# Altium footprint library PHD2.0.PcbLib: 19 footprints (part 1 of 2)
Each footprint in its own frame and in the unit in brackets; x right, y up, seen from the top. Pads: shape width x height; smd on the part's side, far side on the other; paste and mask are expansions set on the pad; w line width, h text height; cw(c..) or ccw(c..) is an arc to the next point about the centre after c.
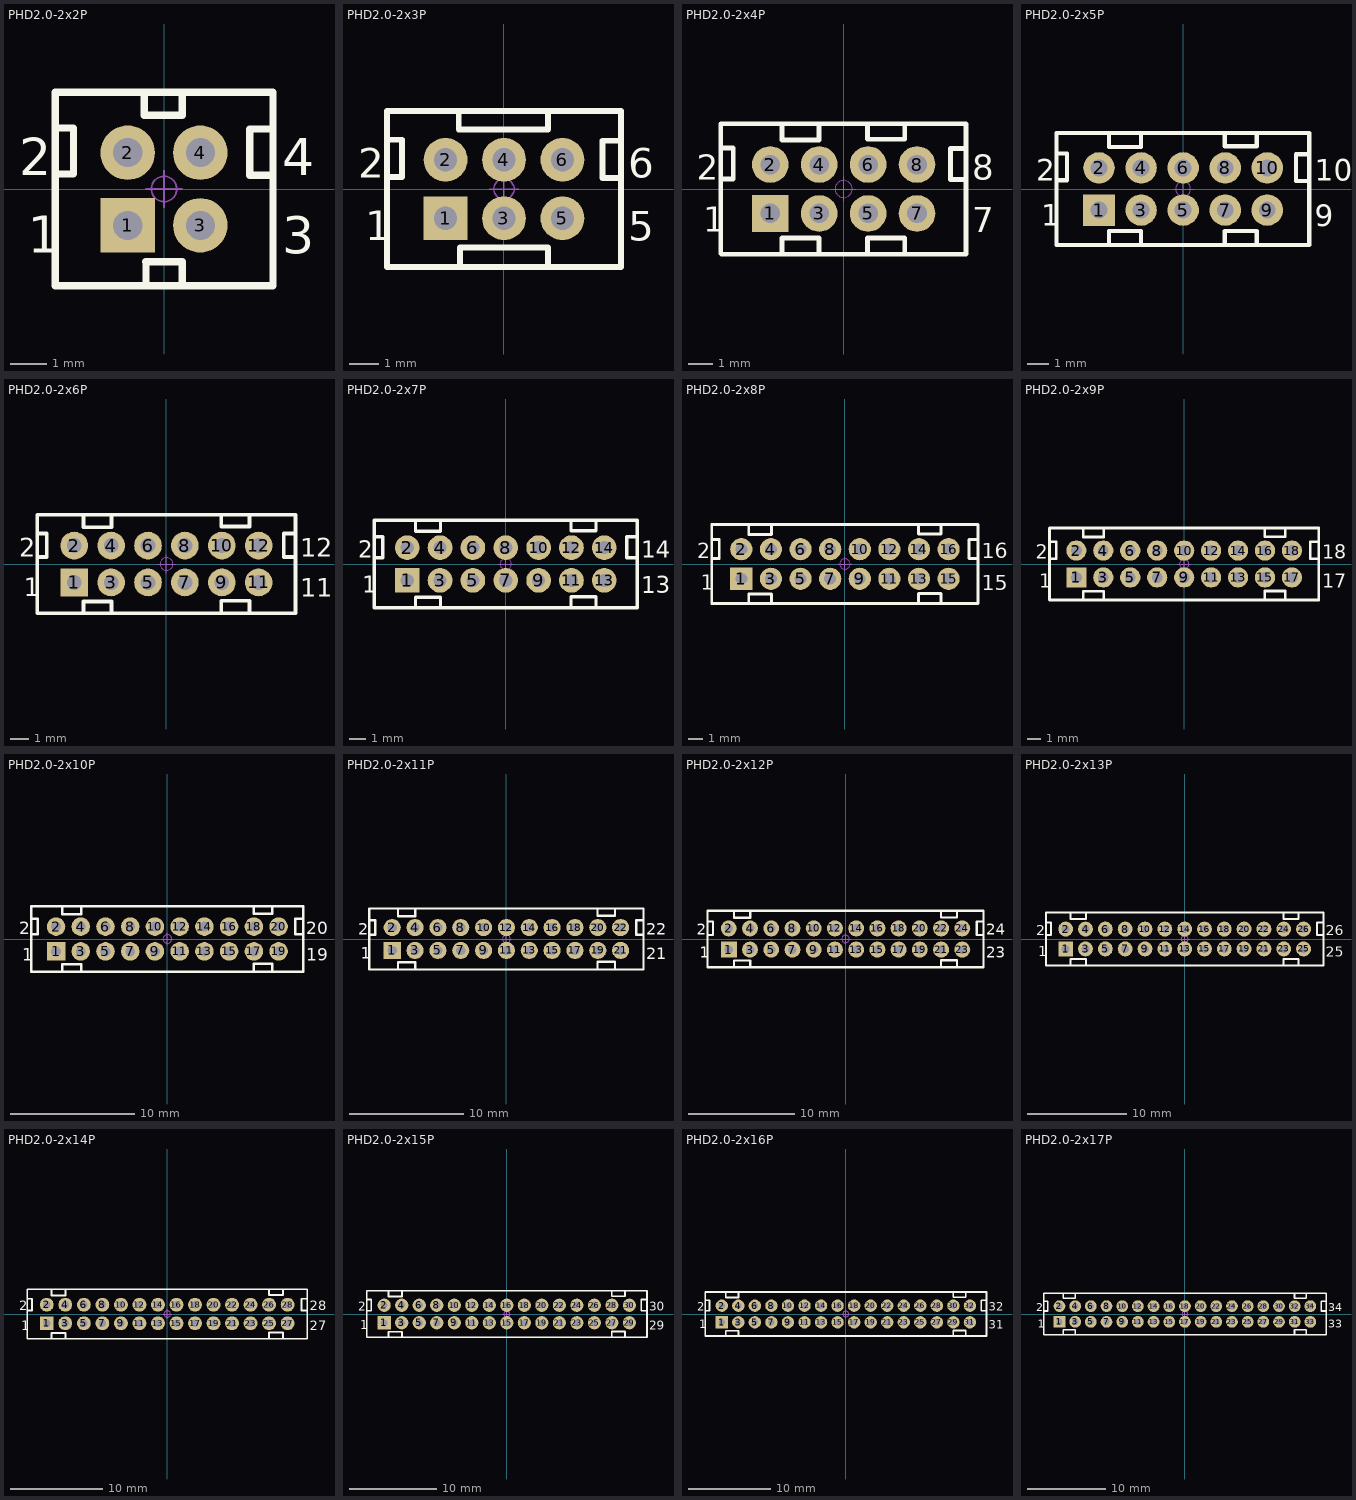
[diagram p0: the footprints below, top view; thin cyan lines are the x and y axes]

## PHD2.0-2x2P [mm] "4脚，长：6mm，宽：5mm，高：6.5mm"
pads (4):
  rect 1.5x1.5 hole 0.8: 1(-1,-1)
  round 1.5 hole 0.8: 2(-1,1) 3(1,-1) 4(1,1)
Top Overlay:
  lines w0.2: -3,-2.667 3,-2.667 3,2.667 -3,2.667 -3,-2.635 ; -3,0.413 -2.492,0.413 -2.492,1.683 -3,1.683 ; -0.548,2.032 -0.548,2.667 ; -0.5,-2.635 -0.5,-2 ; 0.5,-2.667 0.5,-2 ; 0.5,2.032 0.5,2.667 ; 3,0.381 2.365,0.381 2.365,1.651 3,1.651
  lines w0.203: -0.548,2.032 0.5,2.032 ; -0.5,-2 0.5,-2
  text "1" at -3.75,-1.75 h1.02
  text "2" at -3.996,0.381 h1.02
  text "4" at 3.254,0.381 h1.02
  text "3" at 3.254,-1.778 h1.02
Bottom Overlay:
  lines w0.381: -1.5,0 1.5,0 ; 0,-1.5 0,1.5
Mechanical 15:
  circle w0.05: c0,0 r0.35
  lines w0.05: -0.5,0 0.5,0 ; 0,-0.5 0,0.5
3D body: height 6.55, standoff -2.75, extent -3,-2.5 3,2.5

## PHD2.0-2x3P [mm] "6脚，长：8mm，宽：5mm，高：6.5mm"
pads (6):
  rect 1.5x1.5 hole 0.8: 1(-2,-1)
  round 1.5 hole 0.8: 2(-2,1) 3(0,-1) 4(0,1) 5(2,-1) 6(2,1)
Top Overlay:
  lines w0.2: -4,-2.667 4,-2.667 4,2.667 -4,2.667 -4,-2.635 ; -4,0.413 -3.492,0.413 -3.492,1.683 -4,1.683 ; -1.548,2.667 -1.548,2.032 1.5,2.032 1.5,2.667 ; -1.5,-2.635 -1.5,-2 0.024,-2 ; -0.024,-2 1.5,-2 1.5,-2.667 ; 4,0.381 3.365,0.381 3.365,1.651 4,1.651
  text "2" at -4.996,0.381 h1.02
  text "1" at -4.75,-1.75 h1.02
  text "6" at 4.254,0.381 h1.02
  text "5" at 4.254,-1.778 h1.02
Bottom Overlay:
  lines w0.381: -2.5,0 2.5,0 ; -1,-1.5 -1,1.5 ; 1,-1.5 1,1.5
Mechanical 15:
  circle w0.05: c0,0 r0.35
  lines w0.05: -0.5,0 0.5,0 ; 0,-0.5 0,0.5
3D body: height 6.55, standoff -2.75, extent -4,-2.5 4,2.5

## PHD2.0-2x4P [mm] "8脚，长：10mm，宽：5mm，高：6.5mm"
pads (8):
  rect 1.5x1.5 hole 0.8: 1(-3,-1)
  round 1.5 hole 0.8: 2(-3,1) 3(-1,-1) 4(-1,1) 5(1,-1) 6(1,1) 7(3,-1) 8(3,1)
Top Overlay:
  lines w0.2: -5.024,-2.635 -5.024,2.667 5,2.667 5,-2.667 -5,-2.667 ; -5.024,0.413 -4.516,0.413 -4.516,1.683 -5.024,1.683 ; -2.524,-2.635 -2.524,-2 -1,-2 -1,-2.635 ; -2.524,2.667 -2.524,2 -1,2 -1,2.667 ; 0.976,-2.667 0.976,-2 2.5,-2 2.5,-2.667 ; 0.976,2.667 0.976,2.032 2.5,2.032 2.5,2.667 ; 5,0.381 4.365,0.381 4.365,1.651 5,1.651
  text "2" at -5.996,0.381 h1.02
  text "1" at -5.75,-1.75 h1.02
  text "7" at 5.254,-1.778 h1.02
  text "8" at 5.254,0.381 h1.02
Bottom Overlay:
  lines w0.381: -3.5,0 3.5,0 ; -2,-1.5 -2,1.5 ; 0,-1.5 0,1.5 ; 2,-1.5 2,1.5
Mechanical 15:
  circle w0.05: c0,0 r0.35
  lines w0.05: -0.5,0 0.5,0 ; 0,-0.5 0,0.5
3D body: height 6.55, standoff -2.75, extent -5,-2.5 5,2.5

## PHD2.0-2x5P [mm] "10脚，长：12mm，宽：5mm，高：6.5mm"
pads (10):
  rect 1.5x1.5 hole 0.8: 1(-4,-1)
  round 1.5 hole 0.8: 2(-4,1) 3(-2,-1) 4(-2,1) 5(0,-1) 6(0,1) 7(2,-1) 8(2,1) 9(4,-1) 10(4,1)
Top Overlay:
  lines w0.2: -6.024,-2.667 6,-2.667 6,2.667 -6.024,2.667 -6.024,-2.635 ; -6.024,0.413 -5.516,0.413 -5.516,1.683 -6.024,1.683 ; -3.524,-2.635 -3.524,-2 -2,-2 -2,-2.635 ; -3.524,2.667 -3.524,2 -2,2 -2,2.667 ; 1.976,-2.667 1.976,-2 3.5,-2 3.5,-2.667 ; 1.976,2.667 1.976,2.032 3.5,2.032 3.5,2.667 ; 6,0.381 5.365,0.381 5.365,1.651 6,1.651
  text "2" at -6.996,0.381 h1.02
  text "1" at -6.75,-1.75 h1.02
  text "10" at 6.254,0.381 h1.02
  text "9" at 6.254,-1.778 h1.02
Bottom Overlay:
  lines w0.381: -4.5,0 4.5,0 ; -3,-1.5 -3,1.5 ; -1,-1.5 -1,1.5 ; 1,-1.5 1,1.5 ; 3,-1.5 3,1.5
Mechanical 15:
  circle w0.05: c0,0 r0.35
  lines w0.05: -0.5,0 0.5,0 ; 0,-0.5 0,0.5
3D body: height 6.55, standoff -2.75, extent -6,-2.5 6,2.5

## PHD2.0-2x6P [mm] "12脚，长：14mm，宽：5mm，高：6.5mm"
pads (12):
  rect 1.5x1.5 hole 0.8: 1(-5,-1)
  round 1.5 hole 0.8: 2(-5,1) 3(-3,-1) 4(-3,1) 5(-1,-1) 6(-1,1) 7(1,-1) 8(1,1) 9(3,-1) 10(3,1) 11(5,-1) 12(5,1)
Top Overlay:
  lines w0.2: -7,0.381 -6.492,0.381 -6.492,1.651 -7,1.651 ; -4.5,-2.667 -4.5,-2.032 -2.976,-2.032 -2.976,-2.667 ; -4.5,2.667 -4.5,2 -2.976,2 -2.976,2.667 ; 2.976,-2.667 2.976,-2 4.5,-2 4.5,-2.667 ; 2.976,2.667 2.976,2.032 4.5,2.032 4.5,2.667 ; 7,0.381 6.365,0.381 6.365,1.651 7,1.651 ; -7,-2.667 7,-2.667 7,2.667 -7,2.667 -7,-2.667
  text "2" at -7.996,0.381 h1.02
  text "1" at -7.75,-1.75 h1.02
  text "12" at 7.254,0.381 h1.02
  text "11" at 7.254,-1.778 h1.02
Bottom Overlay:
  lines w0.381: -5,0 5.5,0 ; -4,-1.5 -4,1.5 ; -2,-1.5 -2,1.5 ; 0,-1.5 0,1.5 ; 2,-1.5 2,1.5 ; 4,-1.5 4,1.5
Mechanical 15:
  circle w0.05: c0,0 r0.35
  lines w0.05: -0.5,0 0.5,0 ; 0,-0.5 0,0.5
3D body: height 6.55, standoff -2.75, extent -7,-2.5 7,2.5

## PHD2.0-2x7P [mm] "14脚，长：16mm，宽：5mm，高：6.5mm"
pads (14):
  rect 1.5x1.5 hole 0.8: 1(-6,-1)
  round 1.5 hole 0.8: 2(-6,1) 3(-4,-1) 4(-4,1) 5(-2,-1) 6(-2,1) 7(0,-1) 8(0,1) 9(2,-1) 10(2,1) 11(4,-1) 12(4,1) 13(6,-1) 14(6,1)
Top Overlay:
  lines w0.2: -8,0.381 -7.492,0.381 -7.492,1.651 -8,1.651 ; -5.5,-2.667 -5.5,-2.032 -3.976,-2.032 -3.976,-2.667 ; -5.5,2.667 -5.5,2 -3.976,2 -3.976,2.667 ; 3.976,-2.667 3.976,-2 5.5,-2 5.5,-2.667 ; 3.976,2.667 3.976,2.032 5.5,2.032 5.5,2.667 ; 8,0.381 7.365,0.381 7.365,1.651 8,1.651 ; -8,-2.667 8,-2.667 8,2.667 -8,2.667 -8,-2.667
  text "2" at -8.996,0.381 h1.02
  text "1" at -8.75,-1.75 h1.02
  text "14" at 8.254,0.381 h1.02
  text "13" at 8.254,-1.778 h1.02
Bottom Overlay:
  lines w0.381: -6.5,0 6.5,0 ; -5,-1.5 -5,1.5 ; -3,-1.5 -3,1.5 ; -1,-1.5 -1,1.5 ; 1,-1.5 1,1.5 ; 3,-1.5 3,1.5 ; 5,-1.5 5,1.5
Mechanical 15:
  circle w0.05: c0,0 r0.35
  lines w0.05: -0.5,0 0.5,0 ; 0,-0.5 0,0.5
3D body: height 6.55, standoff -2.75, extent -8,-2.5 8,2.5

## PHD2.0-2x8P [mm] "16脚，长：18mm，宽：5mm，高：6.5mm"
pads (16):
  rect 1.5x1.5 hole 0.8: 1(-7,-1)
  round 1.5 hole 0.8: 2(-7,1) 3(-5,-1) 4(-5,1) 5(-3,-1) 6(-3,1) 7(-1,-1) 8(-1,1) 9(1,-1) 10(1,1) 11(3,-1) 12(3,1) 13(5,-1) 14(5,1) 15(7,-1) 16(7,1)
Top Overlay:
  lines w0.2: -9,0.381 -8.492,0.381 -8.492,1.651 -9,1.651 ; -6.5,-2.667 -6.5,-2.032 -4.976,-2.032 -4.976,-2.667 ; -6.5,2.667 -6.5,2 -4.976,2 -4.976,2.667 ; 4.976,-2.667 4.976,-2 6.5,-2 6.5,-2.667 ; 4.976,2.667 4.976,2.032 6.5,2.032 6.5,2.667 ; 9,0.381 8.365,0.381 8.365,1.651 9,1.651 ; -9,-2.667 9,-2.667 9,2.667 -9,2.667 -9,-2.667
  text "2" at -9.996,0.381 h1.02
  text "1" at -9.75,-1.75 h1.02
  text "16" at 9.254,0.381 h1.02
  text "15" at 9.254,-1.778 h1.02
Bottom Overlay:
  lines w0.381: -7.5,0 7.5,0 ; -6,-1.5 -6,1.5 ; -4,-1.5 -4,1.5 ; -2,-1.5 -2,1.5 ; 0,-1.5 0,1.5 ; 2,-1.5 2,1.5 ; 4,-1.5 4,1.5 ; 6,-1.5 6,1.5
Mechanical 15:
  circle w0.05: c0,0 r0.35
  lines w0.05: -0.5,0 0.5,0 ; 0,-0.5 0,0.5
3D body: height 6.55, standoff -2.75, extent -9,-2.5 9,2.5

## PHD2.0-2x9P [mm] "18脚，长：20mm，宽：5mm，高：6.5mm"
pads (18):
  rect 1.5x1.5 hole 0.8: 1(-8,-1)
  round 1.5 hole 0.8: 2(-8,1) 3(-6,-1) 4(-6,1) 5(-4,-1) 6(-4,1) 7(-2,-1) 8(-2,1) 9(0,-1) 10(0,1) 11(2,-1) 12(2,1) 13(4,-1) 14(4,1) 15(6,-1) 16(6,1) 17(8,-1) 18(8,1)
Top Overlay:
  lines w0.2: -10,0.381 -9.492,0.381 -9.492,1.651 -10,1.651 ; -7.5,-2.667 -7.5,-2.032 -5.976,-2.032 -5.976,-2.667 ; -7.5,2.667 -7.5,2 -5.976,2 -5.976,2.667 ; 5.976,-2.667 5.976,-2 7.5,-2 7.5,-2.667 ; 5.976,2.667 5.976,2.032 7.5,2.032 7.5,2.667 ; 10,0.381 9.365,0.381 9.365,1.651 10,1.651 ; -10,-2.667 -10,2.667 10,2.667 10,-2.667 -10,-2.667
  text "2" at -10.996,0.381 h1.02
  text "1" at -10.75,-1.75 h1.02
  text "17" at 10.254,-1.778 h1.02
  text "18" at 10.254,0.381 h1.02
Bottom Overlay:
  lines w0.381: -8.5,0 8.5,0 ; -7,-1.5 -7,1.5 ; -5,-1.5 -5,1.5 ; -3,-1.5 -3,1.5 ; -1,-1.5 -1,1.5 ; 1,-1.5 1,1.5 ; 3,-1.5 3,1.5 ; 5,-1.5 5,1.5 ; 7,-1.5 7,1.5
Mechanical 15:
  circle w0.05: c0,0 r0.35
  lines w0.05: -0.5,0 0.5,0 ; 0,-0.5 0,0.5
3D body: height 6.55, standoff -2.75, extent -10,-2.5 10,2.5

## PHD2.0-2x10P [mm] "20脚，长：22mm，宽：5mm，高：6.5mm"
pads (20):
  rect 1.5x1.5 hole 0.8: 1(-9,-1)
  round 1.5 hole 0.8: 2(-9,1) 3(-7,-1) 4(-7,1) 5(-5,-1) 6(-5,1) 7(-3,-1) 8(-3,1) 9(-1,-1) 10(-1,1) 11(1,-1) 12(1,1) 13(3,-1) 14(3,1) 15(5,-1) 16(5,1) 17(7,-1) 18(7,1) 19(9,-1) 20(9,1)
Top Overlay:
  lines w0.2: -11,0.381 -10.492,0.381 -10.492,1.651 -11,1.651 ; -8.5,-2.667 -8.5,-2.032 -6.976,-2.032 -6.976,-2.667 ; -8.5,2.667 -8.5,2 -6.976,2 -6.976,2.667 ; 6.976,-2.667 6.976,-2 8.5,-2 8.5,-2.667 ; 6.976,2.667 6.976,2.032 8.5,2.032 8.5,2.667 ; 11,0.381 10.365,0.381 10.365,1.651 11,1.651 ; -11,-2.667 -11,2.667 11,2.667 11,-2.667 -11,-2.667
  text "2" at -11.996,0.381 h1.02
  text "1" at -11.75,-1.75 h1.02
  text "19" at 11.254,-1.778 h1.02
  text "20" at 11.254,0.381 h1.02
Bottom Overlay:
  lines w0.381: -9.5,0 9.5,0 ; -8,-1.5 -8,1.5 ; -6,-1.5 -6,1.5 ; -4,-1.5 -4,1.5 ; -2,-1.5 -2,1.5 ; 0,-1.5 0,1.5 ; 2,-1.5 2,1.5 ; 4,-1.5 4,1.5 ; 6,-1.5 6,1.5 ; 8,-1.5 8,1.5
Mechanical 15:
  circle w0.05: c0,0 r0.35
  lines w0.05: -0.5,0 0.5,0 ; 0,-0.5 0,0.5
3D body: height 6.55, standoff -2.75, extent -11,-2.5 11,2.5

## PHD2.0-2x11P [mm] "22脚，长：24mm，宽：5mm，高：6.5mm"
pads (22):
  rect 1.5x1.5 hole 0.8: 1(-10,-1)
  round 1.5 hole 0.8: 2(-10,1) 3(-8,-1) 4(-8,1) 5(-6,-1) 6(-6,1) 7(-4,-1) 8(-4,1) 9(-2,-1) 10(-2,1) 11(0,-1) 12(0,1) 13(2,-1) 14(2,1) 15(4,-1) 16(4,1) 17(6,-1) 18(6,1) 19(8,-1) 20(8,1) 21(10,-1) 22(10,1)
Top Overlay:
  lines w0.2: -12,0.381 -11.492,0.381 -11.492,1.651 -12,1.651 ; -9.5,-2.667 -9.5,-2.032 -7.976,-2.032 -7.976,-2.667 ; -9.5,2.667 -9.5,2 -7.976,2 -7.976,2.667 ; 7.976,-2.667 7.976,-2 9.5,-2 9.5,-2.667 ; 7.976,2.667 7.976,2.032 9.5,2.032 9.5,2.667 ; 12,0.381 11.365,0.381 11.365,1.651 12,1.651 ; -12,-2.667 -12,2.667 12,2.667 12,-2.667 -12,-2.667
  text "2" at -12.996,0.381 h1.02
  text "1" at -12.75,-1.75 h1.02
  text "21" at 12.254,-1.778 h1.02
  text "22" at 12.254,0.381 h1.02
Bottom Overlay:
  lines w0.381: -10.5,0 10.5,0 ; -9,-1.5 -9,1.5 ; -7,-1.5 -7,1.5 ; -5,-1.5 -5,1.5 ; -3,-1.5 -3,1.5 ; -1,-1.5 -1,1.5 ; 1,-1.5 1,1.5 ; 3,-1.5 3,1.5 ; 5,-1.5 5,1.5 ; 7,-1.5 7,1.5 ; 9,-1.5 9,1.5
Mechanical 15:
  circle w0.05: c0,0 r0.35
  lines w0.05: -0.5,0 0.5,0 ; 0,-0.5 0,0.5
3D body: height 6.55, standoff -2.75, extent -12,-2.5 12,2.5

## PHD2.0-2x12P [mm] "24脚，长：26mm，宽：5mm，高：6.5mm"
pads (24):
  rect 1.5x1.5 hole 0.8: 1(-11,-1)
  round 1.5 hole 0.8: 2(-11,1) 3(-9,-1) 4(-9,1) 5(-7,-1) 6(-7,1) 7(-5,-1) 8(-5,1) 9(-3,-1) 10(-3,1) 11(-1,-1) 12(-1,1) 13(1,-1) 14(1,1) 15(3,-1) 16(3,1) 17(5,-1) 18(5,1) 19(7,-1) 20(7,1) 21(9,-1) 22(9,1) 23(11,-1) 24(11,1)
Top Overlay:
  lines w0.2: -13,0.381 -12.492,0.381 -12.492,1.651 -13,1.651 ; -10.5,-2.667 -10.5,-2.032 -8.976,-2.032 -8.976,-2.667 ; -10.5,2.667 -10.5,2 -8.976,2 -8.976,2.667 ; 8.976,-2.667 8.976,-2 10.5,-2 10.5,-2.667 ; 8.976,2.667 8.976,2.032 10.5,2.032 10.5,2.667 ; 13,0.381 12.365,0.381 12.365,1.651 13,1.651 ; -13,-2.667 13,-2.667 13,2.667 -13,2.667 -13,-2.667
  text "2" at -13.996,0.381 h1.02
  text "1" at -13.75,-1.75 h1.02
  text "24" at 13.254,0.381 h1.02
  text "23" at 13.254,-1.778 h1.02
Bottom Overlay:
  lines w0.381: -11.5,0 11.5,0 ; -10,-1.5 -10,1.5 ; -8,-1.5 -8,1.5 ; -6,-1.5 -6,1.5 ; -4,-1.5 -4,1.5 ; -2,-1.5 -2,1.5 ; 0,-1.5 0,1.5 ; 2,-1.5 2,1.5 ; 4,-1.5 4,1.5 ; 6,-1.5 6,1.5 ; 8,-1.5 8,1.5 ; 10,-1.5 10,1.5
Mechanical 15:
  circle w0.05: c0,0 r0.35
  lines w0.05: -0.5,0 0.5,0 ; 0,-0.5 0,0.5
3D body: height 6.55, standoff -2.75, extent -13,-2.5 13,2.5

## PHD2.0-2x13P [mm] "26脚，长：28mm，宽：5mm，高：6.5mm"
pads (26):
  rect 1.5x1.5 hole 0.8: 1(-12,-1)
  round 1.5 hole 0.8: 2(-12,1) 3(-10,-1) 4(-10,1) 5(-8,-1) 6(-8,1) 7(-6,-1) 8(-6,1) 9(-4,-1) 10(-4,1) 11(-2,-1) 12(-2,1) 13(0,-1) 14(0,1) 15(2,-1) 16(2,1) 17(4,-1) 18(4,1) 19(6,-1) 20(6,1) 21(8,-1) 22(8,1) 23(10,-1) 24(10,1) 25(12,-1) 26(12,1)
Top Overlay:
  lines w0.2: -14,0.381 -13.492,0.381 -13.492,1.651 -14,1.651 ; -11.5,-2.667 -11.5,-2.032 -9.976,-2.032 -9.976,-2.667 ; -11.5,2.667 -11.5,2 -9.976,2 -9.976,2.667 ; 9.976,-2.667 9.976,-2 11.5,-2 11.5,-2.667 ; 9.976,2.667 9.976,2.032 11.5,2.032 11.5,2.667 ; 14,0.381 13.365,0.381 13.365,1.651 14,1.651 ; -14,-2.667 -14,2.667 14,2.667 14,-2.667 -14,-2.667
  text "2" at -14.996,0.381 h1.02
  text "1" at -14.75,-1.75 h1.02
  text "25" at 14.254,-1.778 h1.02
  text "26" at 14.254,0.381 h1.02
Bottom Overlay:
  lines w0.381: -12.5,0 12.5,0 ; -11,-1.5 -11,1.5 ; -9,-1.5 -9,1.5 ; -7,-1.5 -7,1.5 ; -5,-1.5 -5,1.5 ; -3,-1.5 -3,1.5 ; -1,-1.5 -1,1.5 ; 1,-1.5 1,1.5 ; 3,-1.5 3,1.5 ; 5,-1.5 5,1.5 ; 7,-1.5 7,1.5 ; 9,-1.5 9,1.5 ; 11,-1.5 11,1.5
Mechanical 15:
  circle w0.05: c0,0 r0.35
  lines w0.05: -0.5,0 0.5,0 ; 0,-0.5 0,0.5
3D body: height 6.55, standoff -2.75, extent -14,-2.5 14,2.5

## PHD2.0-2x14P [mm] "28脚，长：30mm，宽：5mm，高：6.5mm"
pads (28):
  rect 1.5x1.5 hole 0.8: 1(-13,-1)
  round 1.5 hole 0.8: 2(-13,1) 3(-11,-1) 4(-11,1) 5(-9,-1) 6(-9,1) 7(-7,-1) 8(-7,1) 9(-5,-1) 10(-5,1) 11(-3,-1) 12(-3,1) 13(-1,-1) 14(-1,1) 15(1,-1) 16(1,1) 17(3,-1) 18(3,1) 19(5,-1) 20(5,1) 21(7,-1) 22(7,1) 23(9,-1) 24(9,1) 25(11,-1) 26(11,1) 27(13,-1) 28(13,1)
Top Overlay:
  lines w0.2: -15.113,0.381 -14.605,0.381 -14.605,1.651 -15.113,1.651 ; -12.5,-2.667 -12.5,-2.032 -10.976,-2.032 -10.976,-2.667 ; -12.5,2.667 -12.5,2 -10.976,2 -10.976,2.667 ; 10.976,-2.667 10.976,-2 12.5,-2 12.5,-2.667 ; 10.976,2.667 10.976,2.032 12.5,2.032 12.5,2.667 ; 15.113,0.381 14.478,0.381 14.478,1.651 15.113,1.651 ; -15.113,-2.667 -15.113,2.667 15.113,2.667 15.113,-2.667 -15.113,-2.667
  text "2" at -15.996,0.381 h1.02
  text "1" at -15.75,-1.75 h1.02
  text "27" at 15.367,-1.778 h1.02
  text "28" at 15.367,0.381 h1.02
Bottom Overlay:
  lines w0.381: -13.5,0 13.5,0 ; -12,-1.5 -12,1.5 ; -10,-1.5 -10,1.5 ; -8,-1.5 -8,1.5 ; -6,-1.5 -6,1.5 ; -4,-1.5 -4,1.5 ; -2,-1.5 -2,1.5 ; 0,-1.5 0,1.5 ; 2,-1.5 2,1.5 ; 4,-1.5 4,1.5 ; 6,-1.5 6,1.5 ; 8,-1.5 8,1.5 ; 10,-1.5 10,1.5 ; 12,-1.5 12,1.5
Mechanical 15:
  circle w0.05: c0,0 r0.35
  lines w0.05: -0.5,0 0.5,0 ; 0,-0.5 0,0.5
3D body: height 6.55, standoff -2.75, extent -15,-2.5 15,2.5

## PHD2.0-2x15P [mm] "30脚，长：32mm，宽：5mm，高：6.5mm"
pads (30):
  rect 1.5x1.5 hole 0.8: 1(-14,-1)
  round 1.5 hole 0.8: 2(-14,1) 3(-12,-1) 4(-12,1) 5(-10,-1) 6(-10,1) 7(-8,-1) 8(-8,1) 9(-6,-1) 10(-6,1) 11(-4,-1) 12(-4,1) 13(-2,-1) 14(-2,1) 15(0,-1) 16(0,1) 17(2,-1) 18(2,1) 19(4,-1) 20(4,1) 21(6,-1) 22(6,1) 23(8,-1) 24(8,1) 25(10,-1) 26(10,1) 27(12,-1) 28(12,1) 29(14,-1) 30(14,1)
Top Overlay:
  lines w0.2: -16,0.381 -15.492,0.381 -15.492,1.651 -16,1.651 ; -13.5,-2.667 -13.5,-2.032 -11.976,-2.032 -11.976,-2.667 ; -13.5,2.667 -13.5,2 -11.976,2 -11.976,2.667 ; 11.976,-2.667 11.976,-2 13.5,-2 13.5,-2.667 ; 11.976,2.667 11.976,2.032 13.5,2.032 13.5,2.667 ; 16,0.381 15.365,0.381 15.365,1.651 16,1.651 ; -16,-2.667 16,-2.667 16,2.667 -16,2.667 -16,-2.667
  text "2" at -16.996,0.381 h1.02
  text "1" at -16.75,-1.75 h1.02
  text "30" at 16.254,0.381 h1.02
  text "29" at 16.254,-1.778 h1.02
Bottom Overlay:
  lines w0.381: -14.5,0 14.5,0 ; -13,-1.5 -13,1.5 ; -11,-1.5 -11,1.5 ; -9,-1.5 -9,1.5 ; -7,-1.5 -7,1.5 ; -5,-1.5 -5,1.5 ; -3,-1.5 -3,1.5 ; -1,-1.5 -1,1.5 ; 1,-1.5 1,1.5 ; 3,-1.5 3,1.5 ; 5,-1.5 5,1.5 ; 7,-1.5 7,1.5 ; 9,-1.5 9,1.5 ; 11,-1.5 11,1.5 ; 13,-1.5 13,1.5
Mechanical 15:
  circle w0.05: c0,0 r0.35
  lines w0.05: -0.5,0 0.5,0 ; 0,-0.5 0,0.5
3D body: height 6.55, standoff -2.75, extent -16,-2.5 16,2.5

## PHD2.0-2x16P [mm] "32脚，长：34mm，宽：5mm，高：6.5mm"
pads (32):
  rect 1.5x1.5 hole 0.8: 1(-15,-1)
  round 1.5 hole 0.8: 2(-15,1) 3(-13,-1) 4(-13,1) 5(-11,-1) 6(-11,1) 7(-9,-1) 8(-9,1) 9(-7,-1) 10(-7,1) 11(-5,-1) 12(-5,1) 13(-3,-1) 14(-3,1) 15(-1,-1) 16(-1,1) 17(1,-1) 18(1,1) 19(3,-1) 20(3,1) 21(5,-1) 22(5,1) 23(7,-1) 24(7,1) 25(9,-1) 26(9,1) 27(11,-1) 28(11,1) 29(13,-1) 30(13,1) 31(15,-1) 32(15,1)
Top Overlay:
  lines w0.2: -17,0.381 -16.492,0.381 -16.492,1.651 -17,1.651 ; -14.5,-2.667 -14.5,-2.032 -12.976,-2.032 -12.976,-2.667 ; -14.5,2.667 -14.5,2 -12.976,2 -12.976,2.667 ; 12.976,-2.667 12.976,-2 14.5,-2 14.5,-2.667 ; 12.976,2.667 12.976,2.032 14.5,2.032 14.5,2.667 ; 17,0.381 16.365,0.381 16.365,1.651 17,1.651 ; -17,-2.667 -17,2.667 17,2.667 17,-2.667 -17,-2.667
  text "2" at -17.996,0.381 h1.02
  text "1" at -17.75,-1.75 h1.02
  text "31" at 17.254,-1.778 h1.02
  text "32" at 17.254,0.381 h1.02
Bottom Overlay:
  lines w0.381: -15.5,0 15.5,0 ; -14,-1.5 -14,1.5 ; -12,-1.5 -12,1.5 ; -10,-1.5 -10,1.5 ; -8,-1.5 -8,1.5 ; -6,-1.5 -6,1.5 ; -4,-1.5 -4,1.5 ; -2,-1.5 -2,1.5 ; 0,-1.5 0,1.5 ; 2,-1.5 2,1.5 ; 4,-1.5 4,1.5 ; 6,-1.5 6,1.5 ; 8,-1.5 8,1.5 ; 10,-1.5 10,1.5 ; 12,-1.5 12,1.5 ; 14,-1.5 14,1.5
Mechanical 15:
  circle w0.05: c0,0 r0.35
  lines w0.05: -0.5,0 0.5,0 ; 0,-0.5 0,0.5
3D body: height 6.55, standoff -2.75, extent -17,-2.5 17,2.5

## PHD2.0-2x17P [mm] "34脚，长：36mm，宽：5mm，高：6.5mm"
pads (34):
  rect 1.5x1.5 hole 0.8: 1(-16,-1)
  round 1.5 hole 0.8: 2(-16,1) 3(-14,-1) 4(-14,1) 5(-12,-1) 6(-12,1) 7(-10,-1) 8(-10,1) 9(-8,-1) 10(-8,1) 11(-6,-1) 12(-6,1) 13(-4,-1) 14(-4,1) 15(-2,-1) 16(-2,1) 17(0,-1) 18(0,1) 19(2,-1) 20(2,1) 21(4,-1) 22(4,1) 23(6,-1) 24(6,1) 25(8,-1) 26(8,1) 27(10,-1) 28(10,1) 29(12,-1) 30(12,1) 31(14,-1) 32(14,1) 33(16,-1) 34(16,1)
Top Overlay:
  lines w0.2: -18,0.381 -17.492,0.381 -17.492,1.651 -18,1.651 ; -15.524,-2.667 -15.524,-2.032 -14,-2.032 -14,-2.667 ; -15.524,2.667 -15.524,2 -14,2 -14,2.667 ; 13.976,-2.667 13.976,-2 15.5,-2 15.5,-2.667 ; 13.976,2.667 13.976,2.032 15.5,2.032 15.5,2.667 ; 18,0.381 17.365,0.381 17.365,1.651 18,1.651 ; -18,-2.667 18,-2.667 18,2.667 -18,2.667 -18,-2.667
  text "2" at -18.996,0.381 h1.02
  text "1" at -18.75,-1.75 h1.02
  text "34" at 18.254,0.381 h1.02
  text "33" at 18.254,-1.778 h1.02
Bottom Overlay:
  lines w0.381: -16.5,0 16.5,0 ; -15,-1.5 -15,1.5 ; -13,-1.5 -13,1.5 ; -11,-1.5 -11,1.5 ; -9,-1.5 -9,1.5 ; -7,-1.5 -7,1.5 ; -5,-1.5 -5,1.5 ; -3,-1.5 -3,1.5 ; -1,-1.5 -1,1.5 ; 1,-1.5 1,1.5 ; 3,-1.5 3,1.5 ; 5,-1.5 5,1.5 ; 7,-1.5 7,1.5 ; 9,-1.5 9,1.5 ; 11,-1.5 11,1.5 ; 13,-1.5 13,1.5 ; 15,-1.5 15,1.5
Mechanical 15:
  circle w0.05: c0,0 r0.35
  lines w0.05: -0.5,0 0.5,0 ; 0,-0.5 0,0.5
3D body: height 6.55, standoff -2.75, extent -18,-2.5 18,2.5